# Altium footprint library Altium.PcbLib: 1 footprints
Each footprint in its own frame and in the unit in brackets; x right, y up, seen from the top. Pads: shape width x height; smd on the part's side, far side on the other; paste and mask are expansions set on the pad; w line width, h text height; cw(c..) or ccw(c..) is an arc to the next point about the centre after c.
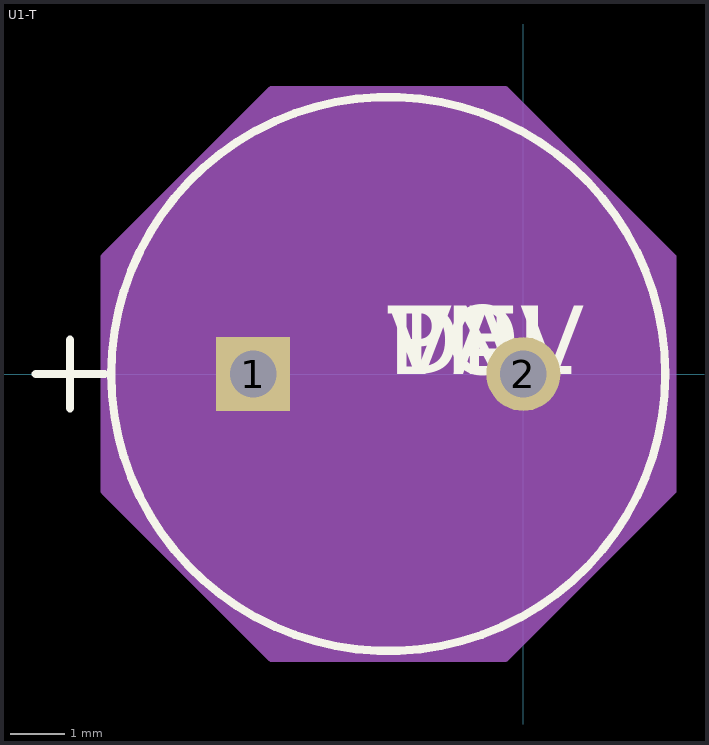
[diagram p0: the footprint, top view; thin cyan lines are the x and y axes]

## U1-T [mil]
pads (2):
  rect 54x54 / inner round 60 / far side rect 54x54 hole 34: 1(-197,0)
  round 54 / inner round 60 / far side round 54 hole 34: 2(0,0)
Top Overlay:
  circle w6: c-98.5,0 r202
  lines w6: -355.5,0 -305.5,0 ; -330.5,-25 -330.5,25
  text "PN" at -98.5,0 h50
  text "DEV" at -98.5,0 h50
  text "VAL" at -98.5,0 h50
  text "TOL" at -98.5,0 h50
Mechanical 13:
  circle w0: c-98.5,0 r197
  text "RefDes2" at -98.5,0 h50
Mechanical 15:
  region: -305.5,85.24 -183.74,207 -13.26,207 108.5,85.24 108.5,-85.24 -13.26,-207 -183.74,-207 -305.5,-85.24
  lines w6: -305.5,-85.24 -183.74,-207 -13.26,-207 108.5,-85.24 108.5,85.24 -13.26,207 -183.74,207 -305.5,85.24 -305.5,-85.24